# Altium schematic symbol library Oscillator 12Mhz X322512MSB4SI.Schlib: 1 symbol
Pins are listed as number, name and electrical type; pins without a type are passive.

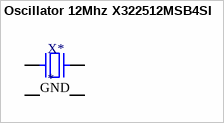
[diagram p0: symbol Oscillator 12Mhz X322512MSB4SI]

## Oscillator 12Mhz X322512MSB4SI
designator X*
LCSC Part #: C9002; JLCPCB Part Type: Basic
footprint SMD-3225_4P
pins: 1, 2 GND, 3, 4 GND